# EAGLE library part SN74LS32N (library SN74LS32N)
Quad 2i/p OR gate,SN74LS32N DIP14 25pcs Source: Datasheet <http://componentsearchengine.com/Datasheets/3/SN74LS32N.pdf>
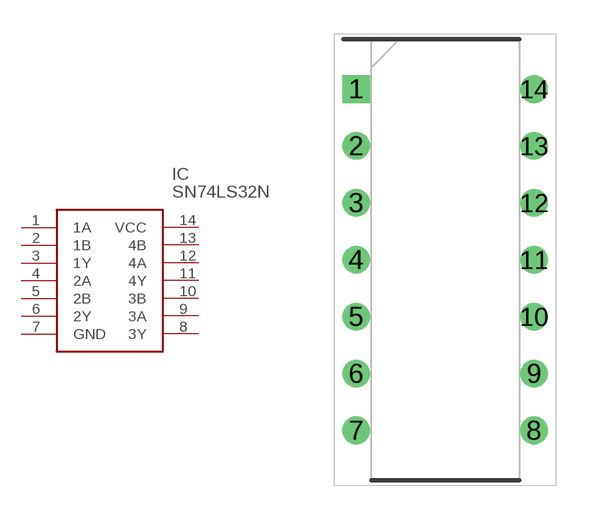
[diagram p0: symbol with the pads of DIP794W53P254L1930H508Q14N; footprint DIP794W53P254L1930H508Q14N]

Designator prefix IC

## SN74LS32N (Description: Quad 2i/p OR gate,SN74LS32N DIP14 25pcs; Height: 5.08mm; Manufacturer_Name: Texas Instruments; Manufacturer_Part_Number: SN74LS32N; Mouser_Part_Number: 595-SN74LS32N; Mouser_Price-Stock: https://www.mouser.co.uk/ProductDetail/Texas-Instruments/SN74LS32N/?qs=q2XTDbzbm6DA9Mnew5GiLA%3D%3D)  [DIP794W53P254L1930H508Q14N]
1  1A
2  1B
3  1Y
4  2A
5  2B
6  2Y
7  GND
8  3Y
9  3A
10  3B
11  4Y
12  4A
13  4B
14  VCC

## Footprint DIP794W53P254L1930H508Q14N (pad centres in mm)
N (R-PDIP-T14)
drill 0.73 pad 1.13 square: 1 -3.97,7.62
drill 0.73 pad 1.13: 2 -3.97,5.08; 3 -3.97,2.54; 4 -3.97,0; 5 -3.97,-2.54; 6 -3.97,-5.08; 7 -3.97,-7.62; 8 3.97,-7.62; 9 3.97,-5.08; 10 3.97,-2.54; 11 3.97,0; 12 3.97,2.54; 13 3.97,5.08; 14 3.97,7.62